# Altium schematic symbol library dish_controller.SchLib: 3 symbols
Pins are listed as number, name and electrical type; pins without a type are passive.

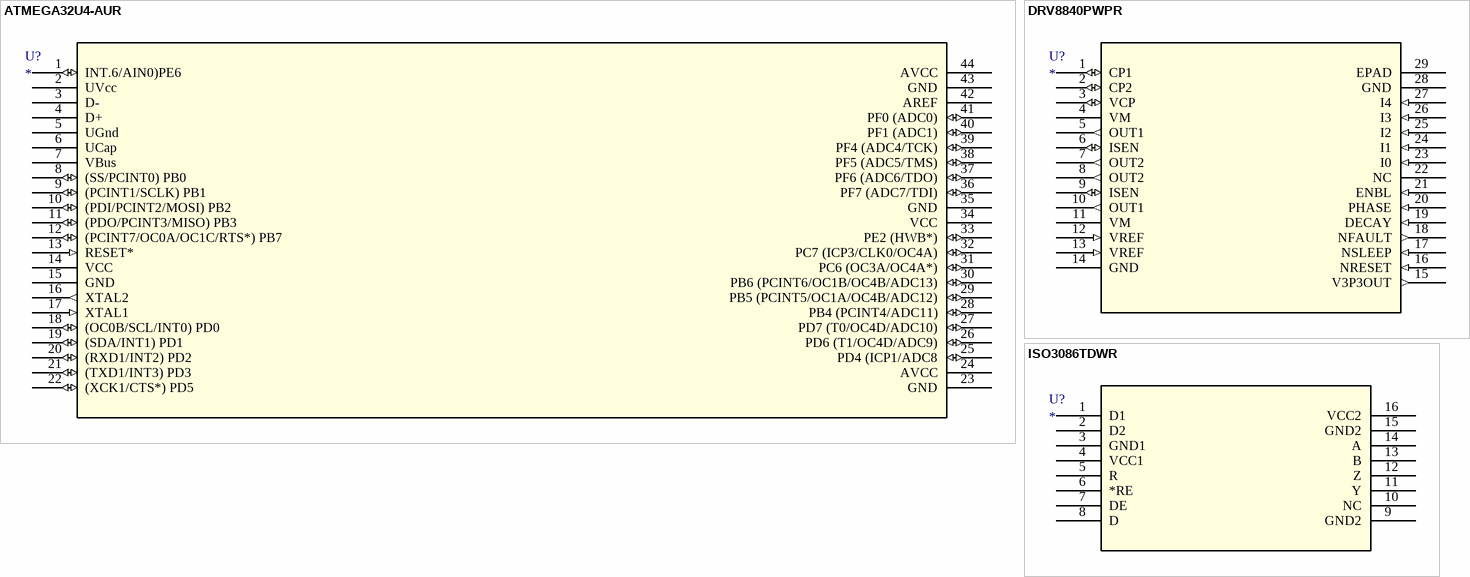
[diagram p0: symbols ATMEGA32U4-AUR to ISO3086TDWR]

## ATMEGA32U4-AUR
designator U?
Imported; Manufacturer_Part_Number: ATMEGA32U4-AUR; Vendor: Atmel; Built_By: EMA_UL_Team; C: Copyright (C) 2015 Accelerated Designs. All rights reserved; RefDes: RefDes; Type: DEV; Value: Value
footprint 44ML
pins: 1 INT.6/AIN0)PE6 (io), 2 UVcc (power), 3 D-, 4 D+, 5 UGnd (power), 6 UCap (power), 7 VBus (power), 8 (SS/PCINT0) PB0 (io), 9 (PCINT1/SCLK) PB1 (io), 10 (PDI/PCINT2/MOSI) PB2 (io), 11 (PDO/PCINT3/MISO) PB3 (io), 12 (PCINT7/OC0A/OC1C/RTS*) PB7 (io), 13 RESET* (in), 14 VCC (power), 15 GND (power), 16 XTAL2 (out), 17 XTAL1 (in), 18 (OC0B/SCL/INT0) PD0 (io), 19 (SDA/INT1) PD1 (io), 20 (RXD1/INT2) PD2 (io), 21 (TXD1/INT3) PD3 (io), 22 (XCK1/CTS*) PD5 (io), 23 GND (power), 24 AVCC (power), 25 PD4 (ICP1/ADC8 (io), 26 PD6 (T1/OC4D/ADC9) (io), 27 PD7 (T0/OC4D/ADC10) (io), 28 PB4 (PCINT4/ADC11) (io), 29 PB5 (PCINT5/OC1A/OC4B/ADC12) (io), 30 PB6 (PCINT6/OC1B/OC4B/ADC13) (io), 31 PC6 (OC3A/OC4A*) (io), 32 PC7 (ICP3/CLK0/OC4A) (io), 33 PE2 (HWB*) (io), 34 VCC (power), 35 GND (power), 36 PF7 (ADC7/TDI) (io), 37 PF6 (ADC6/TDO) (io), 38 PF5 (ADC5/TMS) (io), 39 PF4 (ADC4/TCK) (io), 40 PF1 (ADC1) (io), 41 PF0 (ADC0) (io), 42 AREF, 43 GND (power), 44 AVCC (power)

## DRV8840PWPR
designator U?
Imported; Manufacturer: Texas Instruments; Manufacturer_Part_Number: DRV8840PWPR; Built_By: EMA_UL_Team; C: Copyright (C) 2015 Accelerated Designs. All rights reserved; Vendor: Texas Instruments; RefDes: RefDes; Type: DEV; Value: Value
footprint PWP28_5P18X3P1
pins: 1 CP1 (io), 2 CP2 (io), 3 VCP (io), 4 VM (power), 5 OUT1 (out), 6 ISEN (io), 7 OUT2 (out), 8 OUT2 (out), 9 ISEN (io), 10 OUT1 (out), 11 VM (power), 12 VREF (in), 13 VREF (in), 14 GND (power), 15 V3P3OUT (out), 16 NRESET (in), 17 NSLEEP (in), 18 NFAULT (out), 19 DECAY (in), 20 PHASE (in), 21 ENBL (in), 22 NC, 23 I0 (in), 24 I1 (in), 25 I2 (in), 26 I3 (in), 27 I4 (in), 28 GND (power), 29 EPAD

## ISO3086TDWR
designator U?
Imported; Manufacturer: Texas Instruments; Manufacturer_Part_Number: ISO3086TDWR; Built_By: EMA_UL_Team; C: Copyright (C) 2015 Accelerated Designs. All rights reserved; Vendor: Texas Instruments; RefDes: RefDes; Type: DEV; Value: Value
footprint DW16
pins: 1 D1, 2 D2, 3 GND1 (power), 4 VCC1 (power), 5 R, 6 *RE, 7 DE, 8 D, 9 GND2 (power), 10 NC, 11 Y, 12 Z, 13 B, 14 A, 15 GND2 (power), 16 VCC2 (power)